# Altium footprint library SS12_D06.PcbLib: 1 footprints
Each footprint in its own frame and in the unit in brackets; x right, y up, seen from the top. Pads: shape width x height; smd on the part's side, far side on the other; paste and mask are expansions set on the pad; w line width, h text height; cw(c..) or ccw(c..) is an arc to the next point about the centre after c.
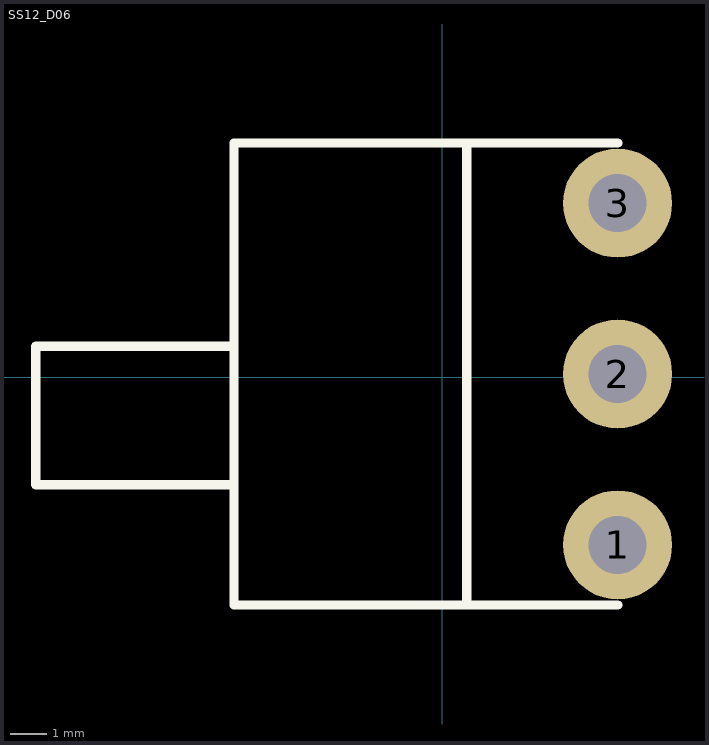
[diagram p0: the footprint, top view; thin cyan lines are the x and y axes]

## SS12_D06 [mm]
pads (3):
  round 3 hole 1.6: 1(4.823,-4.614) 2(4.823,0.085) 3(4.823,4.784)
Top Overlay:
  lines w0.254: -5.845,-2.963 -11.179,-2.963 -11.179,0.847 -5.845,0.847 ; 0.673,-6.265 0.673,6.435 ; 4.823,-6.265 -5.727,-6.265 -5.727,6.435 4.823,6.435